# Altium schematic symbol library MCU_Microchip_ATtiny.SchLib: 223 symbols (part 1 of 4)
Pins are listed as number, name and electrical type; pins without a type are passive.

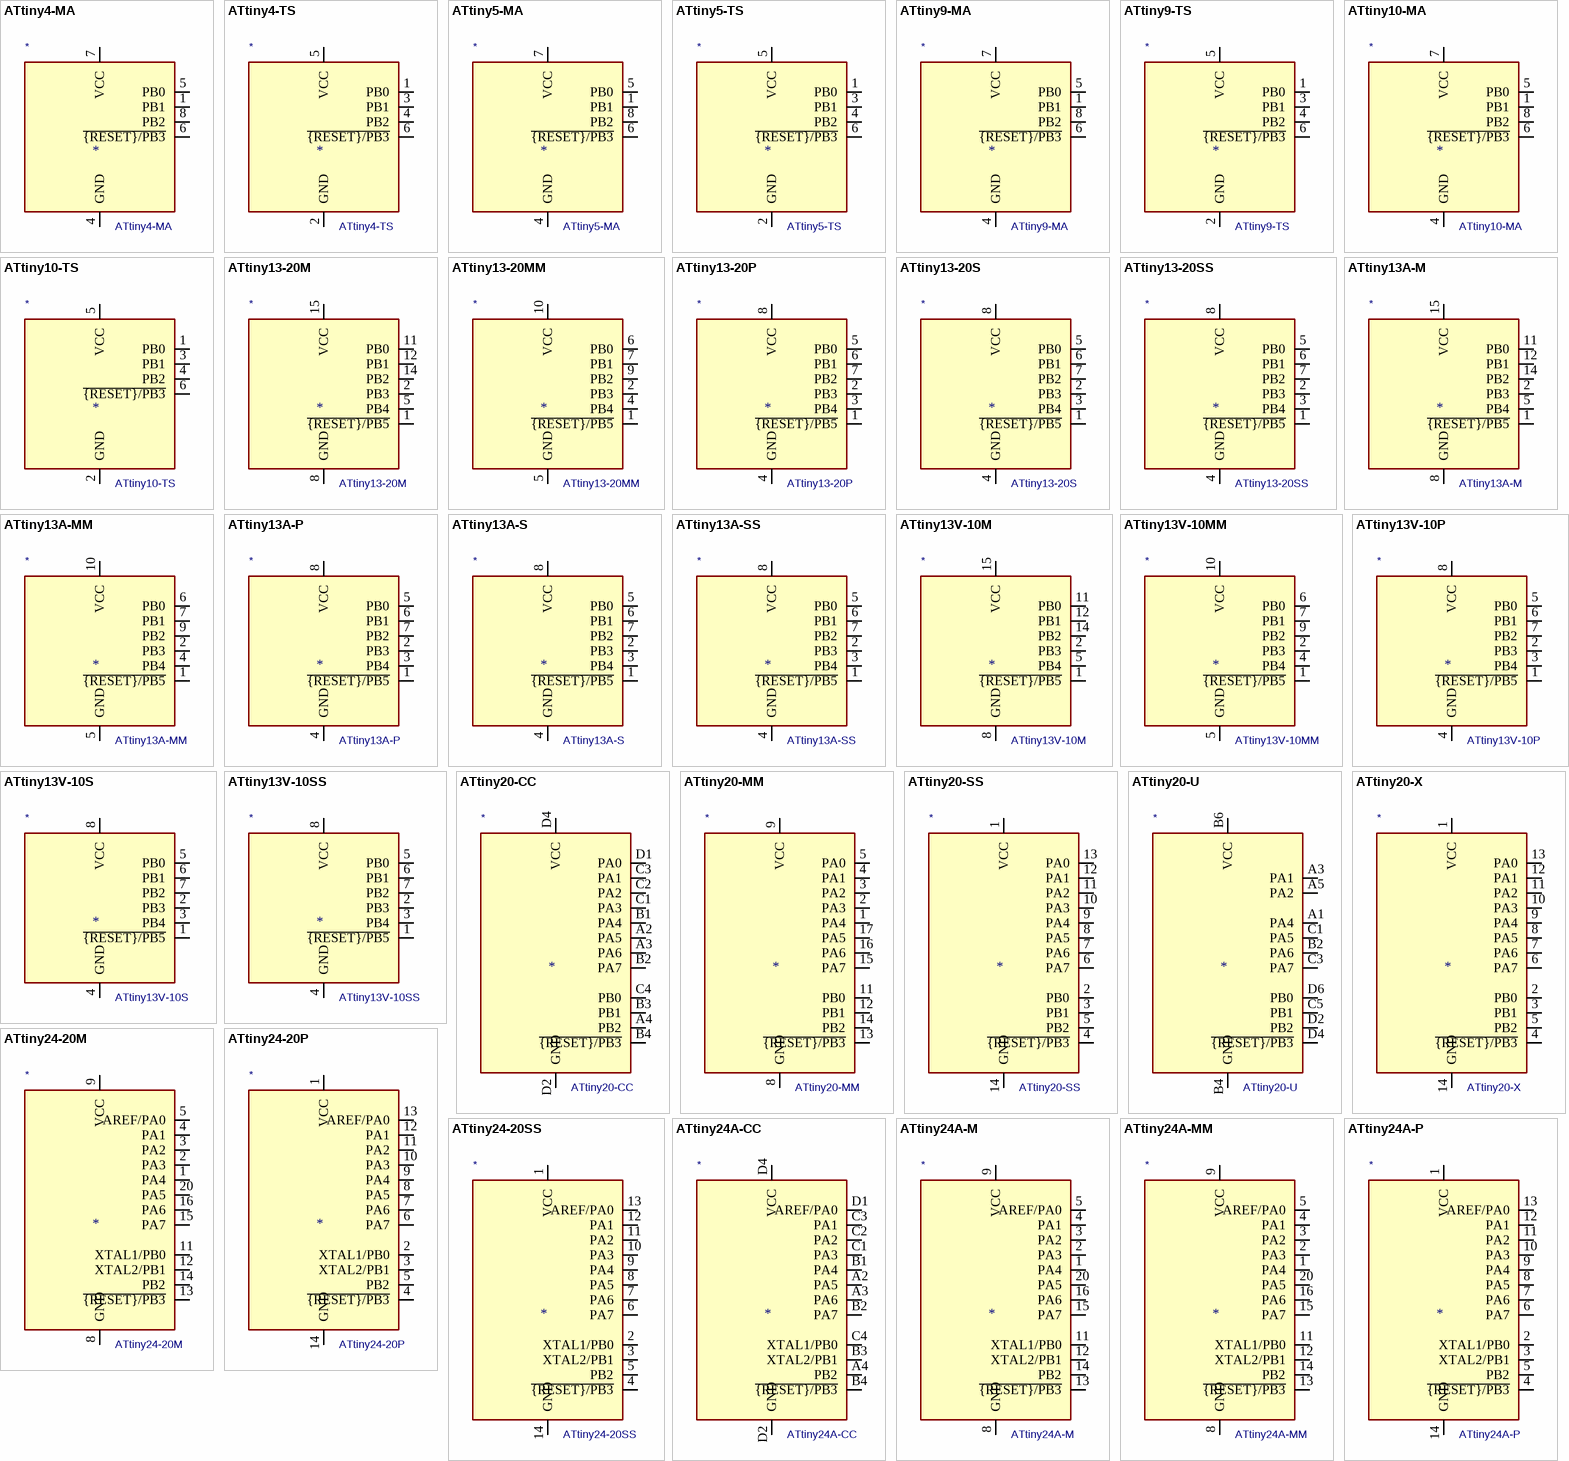
[diagram p0: symbols ATtiny4-MA to ATtiny24A-P]

## ATtiny4-MA
designator *  value ATtiny4-MA
ki_keywords: AVR 8bit Microcontroller tinyAVR; ki_description: 12MHz, 512B Flash, 32B SRAM, No EEPROM, DFN-8; ki_fp_filters: DFN*1EP*2x2mm*P0.5mm*; Footprint: Package_DFN_QFN:DFN-8-1EP_2x2mm_P0.5mm_EP0.9x1.5mm; Supplier: http://ww1.microchip.com/downloads/en/DeviceDoc/Atmel-8127-AVR-8-bit-Microcontroller-ATtiny4-ATtiny5-ATtiny9-ATtiny10_Datasheet.pdf
footprint DFN-8-1EP_2x2mm_P0.5mm_EP0.9x1.5mm
pins: 1 PB1 (io), 2 NC (in) hidden, 3 NC (in) hidden, 4 GND (power), 5 PB0 (io), 6 ~{{RESET}/PB3} (io), 7 VCC (power), 8 PB2 (io)

## ATtiny4-TS
designator *  value ATtiny4-TS
ki_keywords: AVR 8bit Microcontroller tinyAVR; ki_description: 12MHz, 512B Flash, 32B SRAM, No EEPROM, SOT-23-6; ki_fp_filters: SOT?23?6*; Footprint: Package_TO_SOT_SMD:SOT-23-6; Supplier: http://ww1.microchip.com/downloads/en/DeviceDoc/Atmel-8127-AVR-8-bit-Microcontroller-ATtiny4-ATtiny5-ATtiny9-ATtiny10_Datasheet.pdf
footprint SOT-23-6
pins: 1 PB0 (io), 2 GND (power), 3 PB1 (io), 4 PB2 (io), 5 VCC (power), 6 ~{{RESET}/PB3} (io)

## ATtiny5-MA
designator *  value ATtiny5-MA
ki_keywords: AVR 8bit Microcontroller tinyAVR; ki_description: 12MHz, 512B Flash, 32B SRAM, No EEPROM, ADC, DFN-8; ki_fp_filters: DFN*1EP*2x2mm*P0.5mm*; Footprint: Package_DFN_QFN:DFN-8-1EP_2x2mm_P0.5mm_EP0.9x1.5mm; Supplier: http://ww1.microchip.com/downloads/en/DeviceDoc/Atmel-8127-AVR-8-bit-Microcontroller-ATtiny4-ATtiny5-ATtiny9-ATtiny10_Datasheet.pdf
footprint DFN-8-1EP_2x2mm_P0.5mm_EP0.9x1.5mm
pins: 1 PB1 (io), 2 NC (in) hidden, 3 NC (in) hidden, 4 GND (power), 5 PB0 (io), 6 ~{{RESET}/PB3} (io), 7 VCC (power), 8 PB2 (io)

## ATtiny5-TS
designator *  value ATtiny5-TS
ki_keywords: AVR 8bit Microcontroller tinyAVR; ki_description: 12MHz, 512B Flash, 32B SRAM, No EEPROM, ADC, SOT-23-6; ki_fp_filters: SOT?23?6*; Footprint: Package_TO_SOT_SMD:SOT-23-6; Supplier: http://ww1.microchip.com/downloads/en/DeviceDoc/Atmel-8127-AVR-8-bit-Microcontroller-ATtiny4-ATtiny5-ATtiny9-ATtiny10_Datasheet.pdf
footprint SOT-23-6
pins: 1 PB0 (io), 2 GND (power), 3 PB1 (io), 4 PB2 (io), 5 VCC (power), 6 ~{{RESET}/PB3} (io)

## ATtiny9-MA
designator *  value ATtiny9-MA
ki_keywords: AVR 8bit Microcontroller tinyAVR; ki_description: 12MHz, 1kB Flash, 32B SRAM, No EEPROM, DFN-8; ki_fp_filters: DFN*1EP*2x2mm*P0.5mm*; Footprint: Package_DFN_QFN:DFN-8-1EP_2x2mm_P0.5mm_EP0.9x1.5mm; Supplier: http://ww1.microchip.com/downloads/en/DeviceDoc/Atmel-8127-AVR-8-bit-Microcontroller-ATtiny4-ATtiny5-ATtiny9-ATtiny10_Datasheet.pdf
footprint DFN-8-1EP_2x2mm_P0.5mm_EP0.9x1.5mm
pins: 1 PB1 (io), 2 NC (in) hidden, 3 NC (in) hidden, 4 GND (power), 5 PB0 (io), 6 ~{{RESET}/PB3} (io), 7 VCC (power), 8 PB2 (io)

## ATtiny9-TS
designator *  value ATtiny9-TS
ki_keywords: AVR 8bit Microcontroller tinyAVR; ki_description: 12MHz, 1kB Flash, 32B SRAM, No EEPROM, SOT-23-6; ki_fp_filters: SOT?23?6*; Footprint: Package_TO_SOT_SMD:SOT-23-6; Supplier: http://ww1.microchip.com/downloads/en/DeviceDoc/Atmel-8127-AVR-8-bit-Microcontroller-ATtiny4-ATtiny5-ATtiny9-ATtiny10_Datasheet.pdf
footprint SOT-23-6
pins: 1 PB0 (io), 2 GND (power), 3 PB1 (io), 4 PB2 (io), 5 VCC (power), 6 ~{{RESET}/PB3} (io)

## ATtiny10-MA
designator *  value ATtiny10-MA
ki_keywords: AVR 8bit Microcontroller tinyAVR; ki_description: 12MHz, 1kB Flash, 32B SRAM, No EEPROM, ADC, DFN-8; ki_fp_filters: DFN*1EP*2x2mm*P0.5mm*; Footprint: Package_DFN_QFN:DFN-8-1EP_2x2mm_P0.5mm_EP0.9x1.5mm; Supplier: http://ww1.microchip.com/downloads/en/DeviceDoc/Atmel-8127-AVR-8-bit-Microcontroller-ATtiny4-ATtiny5-ATtiny9-ATtiny10_Datasheet.pdf
footprint DFN-8-1EP_2x2mm_P0.5mm_EP0.9x1.5mm
pins: 1 PB1 (io), 2 NC (in) hidden, 3 NC (in) hidden, 4 GND (power), 5 PB0 (io), 6 ~{{RESET}/PB3} (io), 7 VCC (power), 8 PB2 (io)

## ATtiny10-TS
designator *  value ATtiny10-TS
ki_keywords: AVR 8bit Microcontroller tinyAVR; ki_description: 12MHz, 1kB Flash, 32B SRAM, No EEPROM, ADC, SOT-23-6; ki_fp_filters: SOT?23?6*; Footprint: Package_TO_SOT_SMD:SOT-23-6; Supplier: http://ww1.microchip.com/downloads/en/DeviceDoc/Atmel-8127-AVR-8-bit-Microcontroller-ATtiny4-ATtiny5-ATtiny9-ATtiny10_Datasheet.pdf
footprint SOT-23-6
pins: 1 PB0 (io), 2 GND (power), 3 PB1 (io), 4 PB2 (io), 5 VCC (power), 6 ~{{RESET}/PB3} (io)

## ATtiny13-20M
designator *  value ATtiny13-20M
ki_keywords: AVR 8bit Microcontroller tinyAVR; ki_description: 20MHz, 1kB Flash, 64B SRAM, 64B EEPROM, debugWIRE, QFN-20; ki_fp_filters: QFN*1EP*4x4mm*P0.5mm*; Footprint: Package_DFN_QFN:QFN-20-1EP_4x4mm_P0.5mm_EP2.6x2.6mm; Supplier: http://ww1.microchip.com/downloads/en/DeviceDoc/doc2535.pdf
footprint QFN-20-1EP_4x4mm_P0.5mm_EP2.6x2.6mm
pins: 1 ~{{RESET}/PB5} (io), 2 PB3 (io), 3 NC (in) hidden, 4 NC (in) hidden, 5 PB4 (io), 6 NC (in) hidden, 7 NC (in) hidden, 8 GND (power), 9 NC (in) hidden, 10 NC (in) hidden, 11 PB0 (io), 12 PB1 (io), 13 NC (in) hidden, 14 PB2 (io), 15 VCC (power), 16 NC (in) hidden, 17 NC (in) hidden, 18 NC (in) hidden, 19 NC (in) hidden, 20 NC (in) hidden, 21 GND hidden

## ATtiny13-20MM
designator *  value ATtiny13-20MM
ki_keywords: AVR 8bit Microcontroller tinyAVR; ki_description: 20MHz, 1kB Flash, 64B SRAM, 64B EEPROM, debugWIRE, DFN-10; ki_fp_filters: DFN*1EP*3x3mm*P0.5mm*; Footprint: Package_DFN_QFN:DFN-10-1EP_3x3mm_P0.5mm_EP1.75x2.7mm; Supplier: http://ww1.microchip.com/downloads/en/DeviceDoc/doc2535.pdf
footprint DFN-10-1EP_3x3mm_P0.5mm_EP1.75x2.7mm
pins: 1 ~{{RESET}/PB5} (io), 2 PB3 (io), 3 NC (in) hidden, 4 PB4 (io), 5 GND (power), 6 PB0 (io), 7 PB1 (io), 8 NC (in) hidden, 9 PB2 (io), 10 VCC (power), 11 GND hidden

## ATtiny13-20P
designator *  value ATtiny13-20P
ki_keywords: AVR 8bit Microcontroller tinyAVR; ki_description: 20MHz, 1kB Flash, 64B SRAM, 64B EEPROM, debugWIRE, DIP-8; ki_fp_filters: DIP*W7.62mm*; Footprint: Package_DIP:DIP-8_W7.62mm; Supplier: http://ww1.microchip.com/downloads/en/DeviceDoc/doc2535.pdf
footprint DIP-8_W7.62mm
pins: 1 ~{{RESET}/PB5} (io), 2 PB3 (io), 3 PB4 (io), 4 GND (power), 5 PB0 (io), 6 PB1 (io), 7 PB2 (io), 8 VCC (power)

## ATtiny13-20S
designator *  value ATtiny13-20S
ki_keywords: AVR 8bit Microcontroller tinyAVR; ki_description: 20MHz, 1kB Flash, 64B SRAM, 64B EEPROM, debugWIRE, SOIC-8W; ki_fp_filters: SOIC*5.3x5.3mm*P1.27mm*; Footprint: Package_SO:SOIC-8W_5.3x5.3mm_P1.27mm; Supplier: http://ww1.microchip.com/downloads/en/DeviceDoc/doc2535.pdf
footprint SOIC-8W_5.3x5.3mm_P1.27mm
pins: 1 ~{{RESET}/PB5} (io), 2 PB3 (io), 3 PB4 (io), 4 GND (power), 5 PB0 (io), 6 PB1 (io), 7 PB2 (io), 8 VCC (power)

## ATtiny13-20SS
designator *  value ATtiny13-20SS
ki_keywords: AVR 8bit Microcontroller tinyAVR; ki_description: 20MHz, 1kB Flash, 64B SRAM, 64B EEPROM, debugWIRE, SOIC-8; ki_fp_filters: SOIC*3.9x4.9mm*P1.27mm*; Footprint: Package_SO:SOIC-8_3.9x4.9mm_P1.27mm; Supplier: http://ww1.microchip.com/downloads/en/DeviceDoc/doc2535.pdf
footprint SOIC-8_3.9x4.9mm_P1.27mm
pins: 1 ~{{RESET}/PB5} (io), 2 PB3 (io), 3 PB4 (io), 4 GND (power), 5 PB0 (io), 6 PB1 (io), 7 PB2 (io), 8 VCC (power)

## ATtiny13A-M
designator *  value ATtiny13A-M
ki_keywords: AVR 8bit Microcontroller tinyAVR; ki_description: 20MHz, 1kB Flash, 64B SRAM, 64B EEPROM, debugWIRE, QFN-20; ki_fp_filters: QFN*1EP*4x4mm*P0.5mm*; Footprint: Package_DFN_QFN:QFN-20-1EP_4x4mm_P0.5mm_EP2.6x2.6mm; Supplier: http://ww1.microchip.com/downloads/en/DeviceDoc/doc8126.pdf
footprint QFN-20-1EP_4x4mm_P0.5mm_EP2.6x2.6mm
pins: 1 ~{{RESET}/PB5} (io), 2 PB3 (io), 3 NC (in) hidden, 4 NC (in) hidden, 5 PB4 (io), 6 NC (in) hidden, 7 NC (in) hidden, 8 GND (power), 9 NC (in) hidden, 10 NC (in) hidden, 11 PB0 (io), 12 PB1 (io), 13 NC (in) hidden, 14 PB2 (io), 15 VCC (power), 16 NC (in) hidden, 17 NC (in) hidden, 18 NC (in) hidden, 19 NC (in) hidden, 20 NC (in) hidden, 21 GND hidden

## ATtiny13A-MM
designator *  value ATtiny13A-MM
ki_keywords: AVR 8bit Microcontroller tinyAVR; ki_description: 20MHz, 1kB Flash, 64B SRAM, 64B EEPROM, debugWIRE, DFN-10; ki_fp_filters: DFN*1EP*3x3mm*P0.5mm*; Footprint: Package_DFN_QFN:DFN-10-1EP_3x3mm_P0.5mm_EP1.75x2.7mm; Supplier: http://ww1.microchip.com/downloads/en/DeviceDoc/doc8126.pdf
footprint DFN-10-1EP_3x3mm_P0.5mm_EP1.75x2.7mm
pins: 1 ~{{RESET}/PB5} (io), 2 PB3 (io), 3 NC (in) hidden, 4 PB4 (io), 5 GND (power), 6 PB0 (io), 7 PB1 (io), 8 NC (in) hidden, 9 PB2 (io), 10 VCC (power), 11 GND hidden

## ATtiny13A-P
designator *  value ATtiny13A-P
ki_keywords: AVR 8bit Microcontroller tinyAVR; ki_description: 20MHz, 1kB Flash, 64B SRAM, 64B EEPROM, debugWIRE, DIP-8; ki_fp_filters: DIP*W7.62mm*; Footprint: Package_DIP:DIP-8_W7.62mm; Supplier: http://ww1.microchip.com/downloads/en/DeviceDoc/doc8126.pdf
footprint DIP-8_W7.62mm
pins: 1 ~{{RESET}/PB5} (io), 2 PB3 (io), 3 PB4 (io), 4 GND (power), 5 PB0 (io), 6 PB1 (io), 7 PB2 (io), 8 VCC (power)

## ATtiny13A-S
designator *  value ATtiny13A-S
ki_keywords: AVR 8bit Microcontroller tinyAVR; ki_description: 20MHz, 1kB Flash, 64B SRAM, 64B EEPROM, debugWIRE, SOIC-8W; ki_fp_filters: SOIC*5.3x5.3mm*P1.27mm*; Footprint: Package_SO:SOIC-8W_5.3x5.3mm_P1.27mm; Supplier: http://ww1.microchip.com/downloads/en/DeviceDoc/doc8126.pdf
footprint SOIC-8W_5.3x5.3mm_P1.27mm
pins: 1 ~{{RESET}/PB5} (io), 2 PB3 (io), 3 PB4 (io), 4 GND (power), 5 PB0 (io), 6 PB1 (io), 7 PB2 (io), 8 VCC (power)

## ATtiny13A-SS
designator *  value ATtiny13A-SS
ki_keywords: AVR 8bit Microcontroller tinyAVR; ki_description: 20MHz, 1kB Flash, 64B SRAM, 64B EEPROM, debugWIRE, SOIC-8; ki_fp_filters: SOIC*3.9x4.9mm*P1.27mm*; Footprint: Package_SO:SOIC-8_3.9x4.9mm_P1.27mm; Supplier: http://ww1.microchip.com/downloads/en/DeviceDoc/doc8126.pdf
footprint SOIC-8_3.9x4.9mm_P1.27mm
pins: 1 ~{{RESET}/PB5} (io), 2 PB3 (io), 3 PB4 (io), 4 GND (power), 5 PB0 (io), 6 PB1 (io), 7 PB2 (io), 8 VCC (power)

## ATtiny13V-10M
designator *  value ATtiny13V-10M
ki_keywords: AVR 8bit Microcontroller tinyAVR; ki_description: 10MHz, 1kB Flash, 64B SRAM, 64B EEPROM, debugWIRE, QFN-20; ki_fp_filters: QFN*1EP*4x4mm*P0.5mm*; Footprint: Package_DFN_QFN:QFN-20-1EP_4x4mm_P0.5mm_EP2.6x2.6mm; Supplier: http://ww1.microchip.com/downloads/en/DeviceDoc/doc2535.pdf
footprint QFN-20-1EP_4x4mm_P0.5mm_EP2.6x2.6mm
pins: 1 ~{{RESET}/PB5} (io), 2 PB3 (io), 3 NC (in) hidden, 4 NC (in) hidden, 5 PB4 (io), 6 NC (in) hidden, 7 NC (in) hidden, 8 GND (power), 9 NC (in) hidden, 10 NC (in) hidden, 11 PB0 (io), 12 PB1 (io), 13 NC (in) hidden, 14 PB2 (io), 15 VCC (power), 16 NC (in) hidden, 17 NC (in) hidden, 18 NC (in) hidden, 19 NC (in) hidden, 20 NC (in) hidden, 21 GND hidden

## ATtiny13V-10MM
designator *  value ATtiny13V-10MM
ki_keywords: AVR 8bit Microcontroller tinyAVR; ki_description: 10MHz, 1kB Flash, 64B SRAM, 64B EEPROM, debugWIRE, DFN-10; ki_fp_filters: DFN*1EP*3x3mm*P0.5mm*; Footprint: Package_DFN_QFN:DFN-10-1EP_3x3mm_P0.5mm_EP1.75x2.7mm; Supplier: http://ww1.microchip.com/downloads/en/DeviceDoc/doc2535.pdf
footprint DFN-10-1EP_3x3mm_P0.5mm_EP1.75x2.7mm
pins: 1 ~{{RESET}/PB5} (io), 2 PB3 (io), 3 NC (in) hidden, 4 PB4 (io), 5 GND (power), 6 PB0 (io), 7 PB1 (io), 8 NC (in) hidden, 9 PB2 (io), 10 VCC (power), 11 GND hidden

## ATtiny13V-10P
designator *  value ATtiny13V-10P
ki_keywords: AVR 8bit Microcontroller tinyAVR; ki_description: 10MHz, 1kB Flash, 64B SRAM, 64B EEPROM, debugWIRE, DIP-8; ki_fp_filters: DIP*W7.62mm*; Footprint: Package_DIP:DIP-8_W7.62mm; Supplier: http://ww1.microchip.com/downloads/en/DeviceDoc/doc2535.pdf
footprint DIP-8_W7.62mm
pins: 1 ~{{RESET}/PB5} (io), 2 PB3 (io), 3 PB4 (io), 4 GND (power), 5 PB0 (io), 6 PB1 (io), 7 PB2 (io), 8 VCC (power)

## ATtiny13V-10S
designator *  value ATtiny13V-10S
ki_keywords: AVR 8bit Microcontroller tinyAVR; ki_description: 10MHz, 1kB Flash, 64B SRAM, 64B EEPROM, debugWIRE, SOIC-8W; ki_fp_filters: SOIC*5.3x5.3mm*P1.27mm*; Footprint: Package_SO:SOIC-8W_5.3x5.3mm_P1.27mm; Supplier: http://ww1.microchip.com/downloads/en/DeviceDoc/doc2535.pdf
footprint SOIC-8W_5.3x5.3mm_P1.27mm
pins: 1 ~{{RESET}/PB5} (io), 2 PB3 (io), 3 PB4 (io), 4 GND (power), 5 PB0 (io), 6 PB1 (io), 7 PB2 (io), 8 VCC (power)

## ATtiny13V-10SS
designator *  value ATtiny13V-10SS
ki_keywords: AVR 8bit Microcontroller tinyAVR; ki_description: 10MHz, 1kB Flash, 64B SRAM, 64B EEPROM, debugWIRE, SOIC-8; ki_fp_filters: SOIC*3.9x4.9mm*P1.27mm*; Footprint: Package_SO:SOIC-8_3.9x4.9mm_P1.27mm; Supplier: http://ww1.microchip.com/downloads/en/DeviceDoc/doc2535.pdf
footprint SOIC-8_3.9x4.9mm_P1.27mm
pins: 1 ~{{RESET}/PB5} (io), 2 PB3 (io), 3 PB4 (io), 4 GND (power), 5 PB0 (io), 6 PB1 (io), 7 PB2 (io), 8 VCC (power)

## ATtiny20-CC
designator *  value ATtiny20-CC
ki_keywords: AVR 8bit Microcontroller tinyAVR; ki_description: 12MHz, 2kB Flash, 128B SRAM, No EEPROM, UFBGA-15; ki_fp_filters: UFBGA*3.0x3.0mm*Layout4x4*P0.65mm*; Footprint: Package_BGA:UFBGA-15_3.0x3.0mm_Layout4x4_P0.65mm; Supplier: http://ww1.microchip.com/downloads/en/DeviceDoc/atmel-8235-8-bit-avr-microcontroller-attiny20_datasheet.pdf
footprint UFBGA-15_3.0x3.0mm_Layout4x4_P0.65mm
pins: A2 PA5 (io), A3 PA6 (io), A4 PB2 (io), B1 PA4 (io), B2 PA7 (io), B3 PB1 (io), B4 ~{{RESET}/PB3} (io), C1 PA3 (io), C2 PA2 (io), C3 PA1 (io), C4 PB0 (io), D1 PA0 (io), D2 GND (power), D3 GND hidden, D4 VCC (power)

## ATtiny20-MM
designator *  value ATtiny20-MM
ki_keywords: AVR 8bit Microcontroller tinyAVR; ki_description: 12MHz, 2kB Flash, 128B SRAM, No EEPROM, QFN-20; ki_fp_filters: QFN*1EP*3x3mm*P0.45mm*; Footprint: Package_DFN_QFN:QFN-20-1EP_3x3mm_P0.45mm_EP1.6x1.6mm; Supplier: http://ww1.microchip.com/downloads/en/DeviceDoc/atmel-8235-8-bit-avr-microcontroller-attiny20_datasheet.pdf
footprint QFN-20-1EP_3x3mm_P0.45mm_EP1.6x1.6mm
pins: 1 PA4 (io), 2 PA3 (io), 3 PA2 (io), 4 PA1 (io), 5 PA0 (io), 6 NC (in) hidden, 7 NC (in) hidden, 8 GND (power), 9 VCC (power), 10 NC (in) hidden, 11 PB0 (io), 12 PB1 (io), 13 ~{{RESET}/PB3} (io), 14 PB2 (io), 15 PA7 (io), 16 PA6 (io), 17 PA5 (io), 18 NC (in) hidden, 19 NC (in) hidden, 20 NC (in) hidden, 21 GND hidden

## ATtiny20-SS
designator *  value ATtiny20-SS
ki_keywords: AVR 8bit Microcontroller tinyAVR; ki_description: 12MHz, 2kB Flash, 128B SRAM, No EEPROM, SOIC-14; ki_fp_filters: SOIC*3.9x8.7mm*P1.27mm*; Footprint: Package_SO:SOIC-14_3.9x8.7mm_P1.27mm; Supplier: http://ww1.microchip.com/downloads/en/DeviceDoc/atmel-8235-8-bit-avr-microcontroller-attiny20_datasheet.pdf
footprint SOIC-14_3.9x8.7mm_P1.27mm
pins: 1 VCC (power), 2 PB0 (io), 3 PB1 (io), 4 ~{{RESET}/PB3} (io), 5 PB2 (io), 6 PA7 (io), 7 PA6 (io), 8 PA5 (io), 9 PA4 (io), 10 PA3 (io), 11 PA2 (io), 12 PA1 (io), 13 PA0 (io), 14 GND (power)

## ATtiny20-U
designator *  value ATtiny20-U
ki_keywords: AVR 8bit Microcontroller tinyAVR; ki_description: 12MHz, 2kB Flash, 128B SRAM, No EEPROM, WLCSP-12; ki_fp_filters: WLCSP*1.403x1.555mm*P0.4mm*Stagger*; Footprint: Package_CSP:WLCSP-12_1.403x1.555mm_P0.4mm_Stagger; Supplier: http://ww1.microchip.com/downloads/en/DeviceDoc/atmel-8235-8-bit-avr-microcontroller-attiny20_datasheet.pdf
footprint WLCSP-12_1.403x1.555mm_P0.4mm_Stagger
pins: A1 PA4 (io), A3 PA1 (io), A5 PA2 (io), B2 PA6 (io), B4 GND (power), B6 VCC (power), C1 PA5 (io), C3 PA7 (io), C5 PB1 (io), D2 PB2 (io), D4 ~{{RESET}/PB3} (io), D6 PB0 (io)

## ATtiny20-X
designator *  value ATtiny20-X
ki_keywords: AVR 8bit Microcontroller tinyAVR; ki_description: 12MHz, 2kB Flash, 128B SRAM, No EEPROM, TSSOP-14; ki_fp_filters: TSSOP*4.4x5mm*P0.65mm*; Footprint: Package_SO:TSSOP-14_4.4x5mm_P0.65mm; Supplier: http://ww1.microchip.com/downloads/en/DeviceDoc/atmel-8235-8-bit-avr-microcontroller-attiny20_datasheet.pdf
footprint TSSOP-14_4.4x5mm_P0.65mm
pins: 1 VCC (power), 2 PB0 (io), 3 PB1 (io), 4 ~{{RESET}/PB3} (io), 5 PB2 (io), 6 PA7 (io), 7 PA6 (io), 8 PA5 (io), 9 PA4 (io), 10 PA3 (io), 11 PA2 (io), 12 PA1 (io), 13 PA0 (io), 14 GND (power)

## ATtiny24-20M
designator *  value ATtiny24-20M
ki_keywords: AVR 8bit Microcontroller tinyAVR; ki_description: 20MHz, 2kB Flash, 128B SRAM, 128B EEPROM, debugWIRE, QFN-20; ki_fp_filters: QFN*1EP*4x4mm*P0.5mm*; Footprint: Package_DFN_QFN:QFN-20-1EP_4x4mm_P0.5mm_EP2.6x2.6mm; Supplier: http://ww1.microchip.com/downloads/en/DeviceDoc/doc8006.pdf
footprint QFN-20-1EP_4x4mm_P0.5mm_EP2.6x2.6mm
pins: 1 PA4 (io), 2 PA3 (io), 3 PA2 (io), 4 PA1 (io), 5 AREF/PA0 (io), 6 NC (in) hidden, 7 NC (in) hidden, 8 GND (power), 9 VCC (power), 10 NC (in) hidden, 11 XTAL1/PB0 (io), 12 XTAL2/PB1 (io), 13 ~{{RESET}/PB3} (io), 14 PB2 (io), 15 PA7 (io), 16 PA6 (io), 17 NC (in) hidden, 18 NC (in) hidden, 19 NC (in) hidden, 20 PA5 (io), 21 GND hidden

## ATtiny24-20P
designator *  value ATtiny24-20P
ki_keywords: AVR 8bit Microcontroller tinyAVR; ki_description: 20MHz, 2kB Flash, 128B SRAM, 128B EEPROM, debugWIRE, DIP-14; ki_fp_filters: DIP*W7.62mm*; Footprint: Package_DIP:DIP-14_W7.62mm; Supplier: http://ww1.microchip.com/downloads/en/DeviceDoc/doc8006.pdf
footprint DIP-14_W7.62mm
pins: 1 VCC (power), 2 XTAL1/PB0 (io), 3 XTAL2/PB1 (io), 4 ~{{RESET}/PB3} (io), 5 PB2 (io), 6 PA7 (io), 7 PA6 (io), 8 PA5 (io), 9 PA4 (io), 10 PA3 (io), 11 PA2 (io), 12 PA1 (io), 13 AREF/PA0 (io), 14 GND (power)

## ATtiny24-20SS
designator *  value ATtiny24-20SS
ki_keywords: AVR 8bit Microcontroller tinyAVR; ki_description: 20MHz, 2kB Flash, 128B SRAM, 128B EEPROM, debugWIRE, SOIC-14; ki_fp_filters: SOIC*3.9x8.7mm*P1.27mm*; Footprint: Package_SO:SOIC-14_3.9x8.7mm_P1.27mm; Supplier: http://ww1.microchip.com/downloads/en/DeviceDoc/doc8006.pdf
footprint SOIC-14_3.9x8.7mm_P1.27mm
pins: 1 VCC (power), 2 XTAL1/PB0 (io), 3 XTAL2/PB1 (io), 4 ~{{RESET}/PB3} (io), 5 PB2 (io), 6 PA7 (io), 7 PA6 (io), 8 PA5 (io), 9 PA4 (io), 10 PA3 (io), 11 PA2 (io), 12 PA1 (io), 13 AREF/PA0 (io), 14 GND (power)

## ATtiny24A-CC
designator *  value ATtiny24A-CC
ki_keywords: AVR 8bit Microcontroller tinyAVR; ki_description: 20MHz, 2kB Flash, 128B SRAM, 128B EEPROM, debugWIRE, UFBGA-15; ki_fp_filters: UFBGA*3.0x3.0mm*Layout4x4*P0.65mm*; Footprint: Package_BGA:UFBGA-15_3.0x3.0mm_Layout4x4_P0.65mm; Supplier: http://ww1.microchip.com/downloads/en/DeviceDoc/doc8183.pdf
footprint UFBGA-15_3.0x3.0mm_Layout4x4_P0.65mm
pins: A2 PA5 (io), A3 PA6 (io), A4 PB2 (io), B1 PA4 (io), B2 PA7 (io), B3 XTAL2/PB1 (io), B4 ~{{RESET}/PB3} (io), C1 PA3 (io), C2 PA2 (io), C3 PA1 (io), C4 XTAL1/PB0 (io), D1 AREF/PA0 (io), D2 GND (power), D3 GND hidden, D4 VCC (power)

## ATtiny24A-M
designator *  value ATtiny24A-M
ki_keywords: AVR 8bit Microcontroller tinyAVR; ki_description: 20MHz, 2kB Flash, 128B SRAM, 128B EEPROM, debugWIRE, QFN-20; ki_fp_filters: QFN*1EP*4x4mm*P0.5mm*; Footprint: Package_DFN_QFN:QFN-20-1EP_4x4mm_P0.5mm_EP2.6x2.6mm; Supplier: http://ww1.microchip.com/downloads/en/DeviceDoc/doc8183.pdf
footprint QFN-20-1EP_4x4mm_P0.5mm_EP2.6x2.6mm
pins: 1 PA4 (io), 2 PA3 (io), 3 PA2 (io), 4 PA1 (io), 5 AREF/PA0 (io), 6 NC (in) hidden, 7 NC (in) hidden, 8 GND (power), 9 VCC (power), 10 NC (in) hidden, 11 XTAL1/PB0 (io), 12 XTAL2/PB1 (io), 13 ~{{RESET}/PB3} (io), 14 PB2 (io), 15 PA7 (io), 16 PA6 (io), 17 NC (in) hidden, 18 NC (in) hidden, 19 NC (in) hidden, 20 PA5 (io), 21 GND hidden

## ATtiny24A-MM
designator *  value ATtiny24A-MM
ki_keywords: AVR 8bit Microcontroller tinyAVR; ki_description: 20MHz, 2kB Flash, 128B SRAM, 128B EEPROM, debugWIRE, QFN-20; ki_fp_filters: QFN*1EP*3x3mm*P0.45mm*; Footprint: Package_DFN_QFN:QFN-20-1EP_3x3mm_P0.45mm_EP1.6x1.6mm; Supplier: http://ww1.microchip.com/downloads/en/DeviceDoc/doc8183.pdf
footprint QFN-20-1EP_3x3mm_P0.45mm_EP1.6x1.6mm
pins: 1 PA4 (io), 2 PA3 (io), 3 PA2 (io), 4 PA1 (io), 5 AREF/PA0 (io), 6 NC (in) hidden, 7 NC (in) hidden, 8 GND (power), 9 VCC (power), 10 NC (in) hidden, 11 XTAL1/PB0 (io), 12 XTAL2/PB1 (io), 13 ~{{RESET}/PB3} (io), 14 PB2 (io), 15 PA7 (io), 16 PA6 (io), 17 NC (in) hidden, 18 NC (in) hidden, 19 NC (in) hidden, 20 PA5 (io), 21 GND hidden

## ATtiny24A-P
designator *  value ATtiny24A-P
ki_keywords: AVR 8bit Microcontroller tinyAVR; ki_description: 20MHz, 2kB Flash, 128B SRAM, 128B EEPROM, debugWIRE, DIP-14; ki_fp_filters: DIP*W7.62mm*; Footprint: Package_DIP:DIP-14_W7.62mm; Supplier: http://ww1.microchip.com/downloads/en/DeviceDoc/doc8183.pdf
footprint DIP-14_W7.62mm
pins: 1 VCC (power), 2 XTAL1/PB0 (io), 3 XTAL2/PB1 (io), 4 ~{{RESET}/PB3} (io), 5 PB2 (io), 6 PA7 (io), 7 PA6 (io), 8 PA5 (io), 9 PA4 (io), 10 PA3 (io), 11 PA2 (io), 12 PA1 (io), 13 AREF/PA0 (io), 14 GND (power)

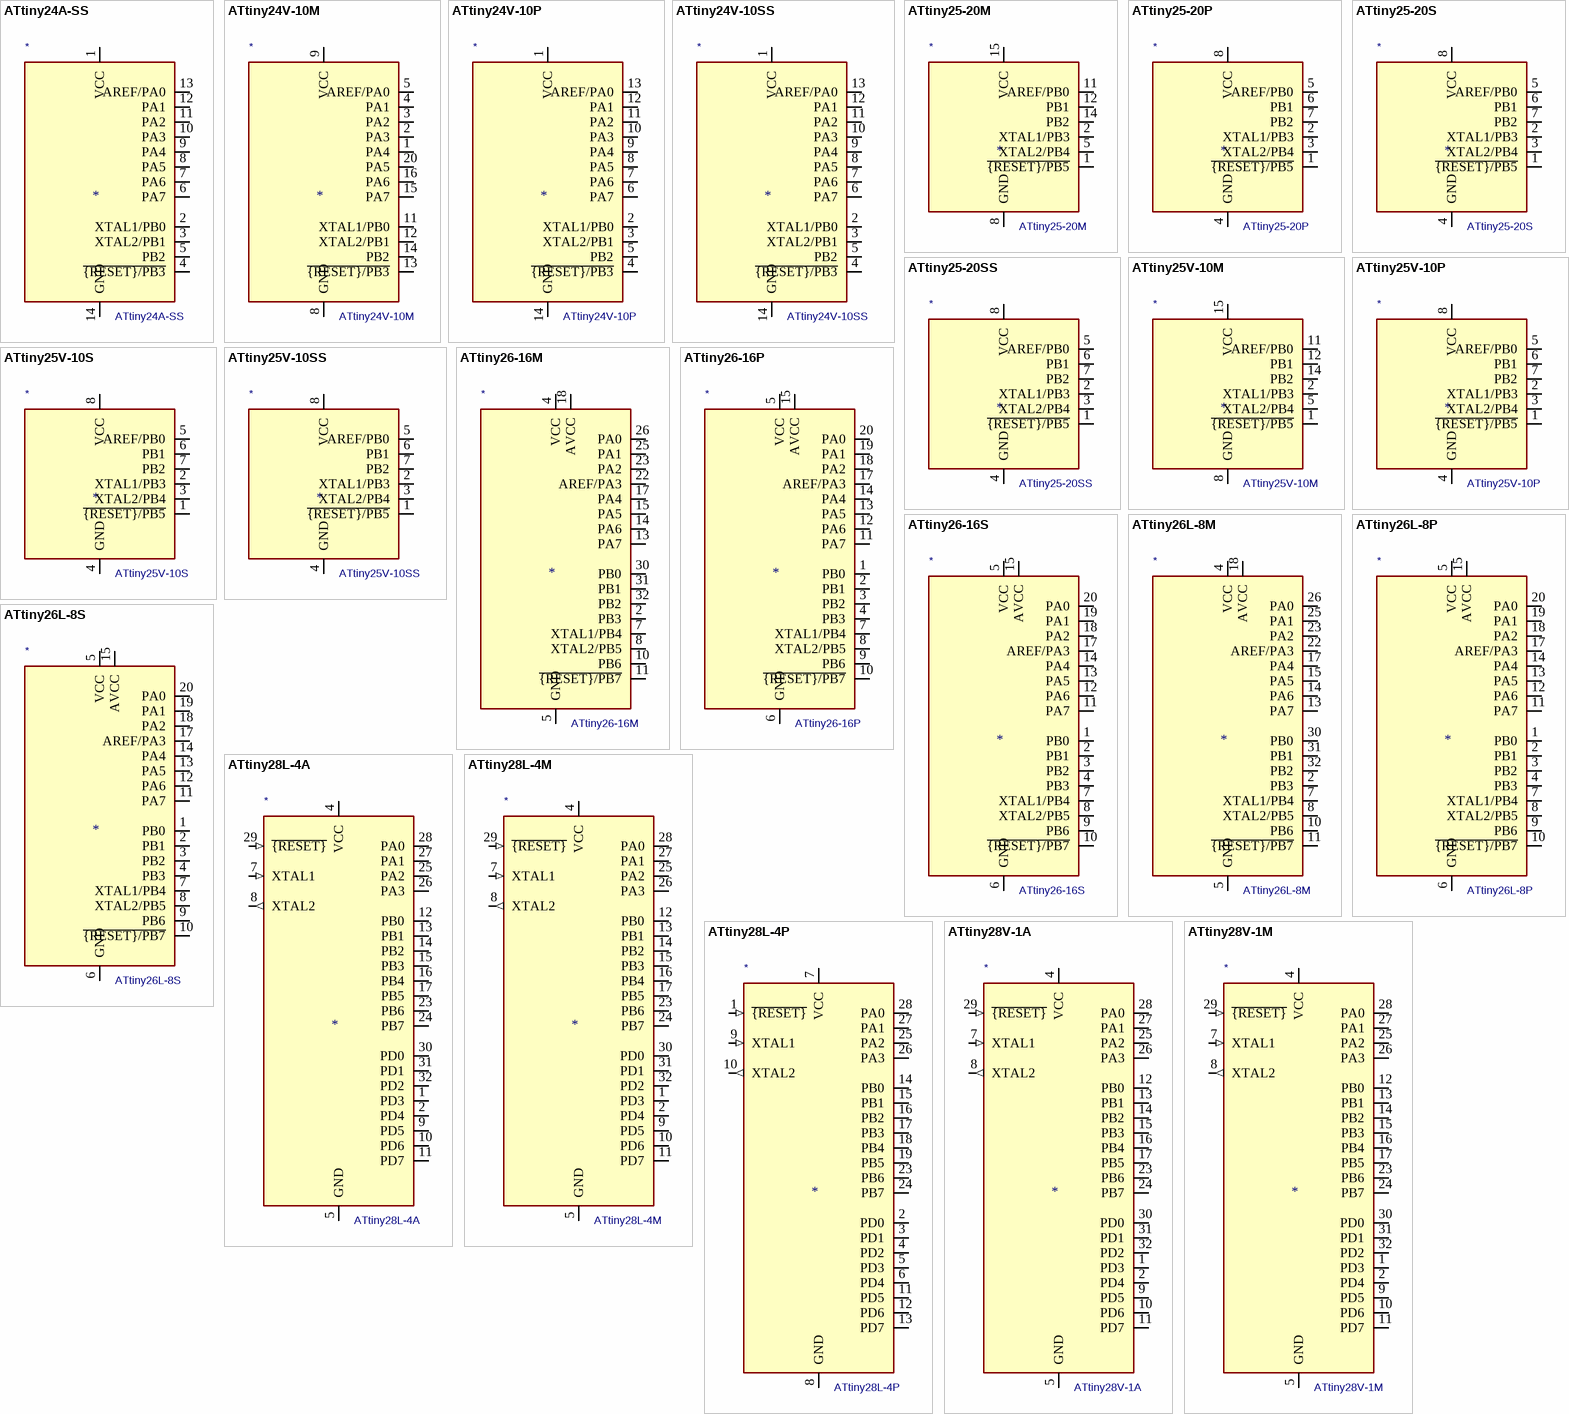
[diagram p1: symbols ATtiny24A-SS to ATtiny28V-1M]

## ATtiny24A-SS
designator *  value ATtiny24A-SS
ki_keywords: AVR 8bit Microcontroller tinyAVR; ki_description: 20MHz, 2kB Flash, 128B SRAM, 128B EEPROM, debugWIRE, SOIC-14; ki_fp_filters: SOIC*3.9x8.7mm*P1.27mm*; Footprint: Package_SO:SOIC-14_3.9x8.7mm_P1.27mm; Supplier: http://ww1.microchip.com/downloads/en/DeviceDoc/doc8183.pdf
footprint SOIC-14_3.9x8.7mm_P1.27mm
pins: 1 VCC (power), 2 XTAL1/PB0 (io), 3 XTAL2/PB1 (io), 4 ~{{RESET}/PB3} (io), 5 PB2 (io), 6 PA7 (io), 7 PA6 (io), 8 PA5 (io), 9 PA4 (io), 10 PA3 (io), 11 PA2 (io), 12 PA1 (io), 13 AREF/PA0 (io), 14 GND (power)

## ATtiny24V-10M
designator *  value ATtiny24V-10M
ki_keywords: AVR 8bit Microcontroller tinyAVR; ki_description: 10MHz, 2kB Flash, 128B SRAM, 128B EEPROM, debugWIRE, QFN-20; ki_fp_filters: QFN*1EP*4x4mm*P0.5mm*; Footprint: Package_DFN_QFN:QFN-20-1EP_4x4mm_P0.5mm_EP2.6x2.6mm; Supplier: http://ww1.microchip.com/downloads/en/DeviceDoc/doc8006.pdf
footprint QFN-20-1EP_4x4mm_P0.5mm_EP2.6x2.6mm
pins: 1 PA4 (io), 2 PA3 (io), 3 PA2 (io), 4 PA1 (io), 5 AREF/PA0 (io), 6 NC (in) hidden, 7 NC (in) hidden, 8 GND (power), 9 VCC (power), 10 NC (in) hidden, 11 XTAL1/PB0 (io), 12 XTAL2/PB1 (io), 13 ~{{RESET}/PB3} (io), 14 PB2 (io), 15 PA7 (io), 16 PA6 (io), 17 NC (in) hidden, 18 NC (in) hidden, 19 NC (in) hidden, 20 PA5 (io), 21 GND hidden

## ATtiny24V-10P
designator *  value ATtiny24V-10P
ki_keywords: AVR 8bit Microcontroller tinyAVR; ki_description: 10MHz, 2kB Flash, 128B SRAM, 128B EEPROM, debugWIRE, DIP-14; ki_fp_filters: DIP*W7.62mm*; Footprint: Package_DIP:DIP-14_W7.62mm; Supplier: http://ww1.microchip.com/downloads/en/DeviceDoc/doc8006.pdf
footprint DIP-14_W7.62mm
pins: 1 VCC (power), 2 XTAL1/PB0 (io), 3 XTAL2/PB1 (io), 4 ~{{RESET}/PB3} (io), 5 PB2 (io), 6 PA7 (io), 7 PA6 (io), 8 PA5 (io), 9 PA4 (io), 10 PA3 (io), 11 PA2 (io), 12 PA1 (io), 13 AREF/PA0 (io), 14 GND (power)

## ATtiny24V-10SS
designator *  value ATtiny24V-10SS
ki_keywords: AVR 8bit Microcontroller tinyAVR; ki_description: 10MHz, 2kB Flash, 128B SRAM, 128B EEPROM, debugWIRE, SOIC-14; ki_fp_filters: SOIC*3.9x8.7mm*P1.27mm*; Footprint: Package_SO:SOIC-14_3.9x8.7mm_P1.27mm; Supplier: http://ww1.microchip.com/downloads/en/DeviceDoc/doc8006.pdf
footprint SOIC-14_3.9x8.7mm_P1.27mm
pins: 1 VCC (power), 2 XTAL1/PB0 (io), 3 XTAL2/PB1 (io), 4 ~{{RESET}/PB3} (io), 5 PB2 (io), 6 PA7 (io), 7 PA6 (io), 8 PA5 (io), 9 PA4 (io), 10 PA3 (io), 11 PA2 (io), 12 PA1 (io), 13 AREF/PA0 (io), 14 GND (power)

## ATtiny25-20M
designator *  value ATtiny25-20M
ki_keywords: AVR 8bit Microcontroller tinyAVR; ki_description: 20MHz, 2kB Flash, 128B SRAM, 128B EEPROM, debugWIRE, QFN-20; ki_fp_filters: QFN*1EP*4x4mm*P0.5mm*; Footprint: Package_DFN_QFN:QFN-20-1EP_4x4mm_P0.5mm_EP2.6x2.6mm; Supplier: http://ww1.microchip.com/downloads/en/DeviceDoc/atmel-2586-avr-8-bit-microcontroller-attiny25-attiny45-attiny85_datasheet.pdf
footprint QFN-20-1EP_4x4mm_P0.5mm_EP2.6x2.6mm
pins: 1 ~{{RESET}/PB5} (io), 2 XTAL1/PB3 (io), 3 NC (in) hidden, 4 NC (in) hidden, 5 XTAL2/PB4 (io), 6 NC (in) hidden, 7 NC (in) hidden, 8 GND (power), 9 NC (in) hidden, 10 NC (in) hidden, 11 AREF/PB0 (io), 12 PB1 (io), 13 NC (in) hidden, 14 PB2 (io), 15 VCC (power), 16 NC (in) hidden, 17 NC (in) hidden, 18 NC (in) hidden, 19 NC (in) hidden, 20 NC (in) hidden, 21 GND hidden

## ATtiny25-20P
designator *  value ATtiny25-20P
ki_keywords: AVR 8bit Microcontroller tinyAVR; ki_description: 20MHz, 2kB Flash, 128B SRAM, 128B EEPROM, debugWIRE, DIP-8; ki_fp_filters: DIP*W7.62mm*; Footprint: Package_DIP:DIP-8_W7.62mm; Supplier: http://ww1.microchip.com/downloads/en/DeviceDoc/atmel-2586-avr-8-bit-microcontroller-attiny25-attiny45-attiny85_datasheet.pdf
footprint DIP-8_W7.62mm
pins: 1 ~{{RESET}/PB5} (io), 2 XTAL1/PB3 (io), 3 XTAL2/PB4 (io), 4 GND (power), 5 AREF/PB0 (io), 6 PB1 (io), 7 PB2 (io), 8 VCC (power)

## ATtiny25-20S
designator *  value ATtiny25-20S
ki_keywords: AVR 8bit Microcontroller tinyAVR; ki_description: 20MHz, 2kB Flash, 128B SRAM, 128B EEPROM, debugWIRE, SOIC-8W; ki_fp_filters: SOIC*5.3x5.3mm*P1.27mm*; Footprint: Package_SO:SOIC-8W_5.3x5.3mm_P1.27mm; Supplier: http://ww1.microchip.com/downloads/en/DeviceDoc/atmel-2586-avr-8-bit-microcontroller-attiny25-attiny45-attiny85_datasheet.pdf
footprint SOIC-8W_5.3x5.3mm_P1.27mm
pins: 1 ~{{RESET}/PB5} (io), 2 XTAL1/PB3 (io), 3 XTAL2/PB4 (io), 4 GND (power), 5 AREF/PB0 (io), 6 PB1 (io), 7 PB2 (io), 8 VCC (power)

## ATtiny25-20SS
designator *  value ATtiny25-20SS
ki_keywords: AVR 8bit Microcontroller tinyAVR; ki_description: 20MHz, 2kB Flash, 128B SRAM, 128B EEPROM, debugWIRE, SOIC-8; ki_fp_filters: SOIC*3.9x4.9mm*P1.27mm*; Footprint: Package_SO:SOIC-8_3.9x4.9mm_P1.27mm; Supplier: http://ww1.microchip.com/downloads/en/DeviceDoc/atmel-2586-avr-8-bit-microcontroller-attiny25-attiny45-attiny85_datasheet.pdf
footprint SOIC-8_3.9x4.9mm_P1.27mm
pins: 1 ~{{RESET}/PB5} (io), 2 XTAL1/PB3 (io), 3 XTAL2/PB4 (io), 4 GND (power), 5 AREF/PB0 (io), 6 PB1 (io), 7 PB2 (io), 8 VCC (power)

## ATtiny25V-10M
designator *  value ATtiny25V-10M
ki_keywords: AVR 8bit Microcontroller tinyAVR; ki_description: 10MHz, 2kB Flash, 128B SRAM, 128B EEPROM, debugWIRE, QFN-20; ki_fp_filters: QFN*1EP*4x4mm*P0.5mm*; Footprint: Package_DFN_QFN:QFN-20-1EP_4x4mm_P0.5mm_EP2.6x2.6mm; Supplier: http://ww1.microchip.com/downloads/en/DeviceDoc/atmel-2586-avr-8-bit-microcontroller-attiny25-attiny45-attiny85_datasheet.pdf
footprint QFN-20-1EP_4x4mm_P0.5mm_EP2.6x2.6mm
pins: 1 ~{{RESET}/PB5} (io), 2 XTAL1/PB3 (io), 3 NC (in) hidden, 4 NC (in) hidden, 5 XTAL2/PB4 (io), 6 NC (in) hidden, 7 NC (in) hidden, 8 GND (power), 9 NC (in) hidden, 10 NC (in) hidden, 11 AREF/PB0 (io), 12 PB1 (io), 13 NC (in) hidden, 14 PB2 (io), 15 VCC (power), 16 NC (in) hidden, 17 NC (in) hidden, 18 NC (in) hidden, 19 NC (in) hidden, 20 NC (in) hidden, 21 GND hidden

## ATtiny25V-10P
designator *  value ATtiny25V-10P
ki_keywords: AVR 8bit Microcontroller tinyAVR; ki_description: 10MHz, 2kB Flash, 128B SRAM, 128B EEPROM, debugWIRE, DIP-8; ki_fp_filters: DIP*W7.62mm*; Footprint: Package_DIP:DIP-8_W7.62mm; Supplier: http://ww1.microchip.com/downloads/en/DeviceDoc/atmel-2586-avr-8-bit-microcontroller-attiny25-attiny45-attiny85_datasheet.pdf
footprint DIP-8_W7.62mm
pins: 1 ~{{RESET}/PB5} (io), 2 XTAL1/PB3 (io), 3 XTAL2/PB4 (io), 4 GND (power), 5 AREF/PB0 (io), 6 PB1 (io), 7 PB2 (io), 8 VCC (power)

## ATtiny25V-10S
designator *  value ATtiny25V-10S
ki_keywords: AVR 8bit Microcontroller tinyAVR; ki_description: 10MHz, 2kB Flash, 128B SRAM, 128B EEPROM, debugWIRE, SOIC-8W; ki_fp_filters: SOIC*5.3x5.3mm*P1.27mm*; Footprint: Package_SO:SOIC-8W_5.3x5.3mm_P1.27mm; Supplier: http://ww1.microchip.com/downloads/en/DeviceDoc/atmel-2586-avr-8-bit-microcontroller-attiny25-attiny45-attiny85_datasheet.pdf
footprint SOIC-8W_5.3x5.3mm_P1.27mm
pins: 1 ~{{RESET}/PB5} (io), 2 XTAL1/PB3 (io), 3 XTAL2/PB4 (io), 4 GND (power), 5 AREF/PB0 (io), 6 PB1 (io), 7 PB2 (io), 8 VCC (power)

## ATtiny25V-10SS
designator *  value ATtiny25V-10SS
ki_keywords: AVR 8bit Microcontroller tinyAVR; ki_description: 10MHz, 2kB Flash, 128B SRAM, 128B EEPROM, debugWIRE, SOIC-8; ki_fp_filters: SOIC*3.9x4.9mm*P1.27mm*; Footprint: Package_SO:SOIC-8_3.9x4.9mm_P1.27mm; Supplier: http://ww1.microchip.com/downloads/en/DeviceDoc/atmel-2586-avr-8-bit-microcontroller-attiny25-attiny45-attiny85_datasheet.pdf
footprint SOIC-8_3.9x4.9mm_P1.27mm
pins: 1 ~{{RESET}/PB5} (io), 2 XTAL1/PB3 (io), 3 XTAL2/PB4 (io), 4 GND (power), 5 AREF/PB0 (io), 6 PB1 (io), 7 PB2 (io), 8 VCC (power)

## ATtiny26-16M
designator *  value ATtiny26-16M
ki_keywords: AVR 8bit Microcontroller tinyAVR; ki_description: 16MHz, 2kB Flash, 128B SRAM, 128B EEPROM, QFN-32; ki_fp_filters: QFN*1EP*5x5mm*P0.5mm*; Footprint: Package_DFN_QFN:QFN-32-1EP_5x5mm_P0.5mm_EP3.1x3.1mm; Supplier: http://ww1.microchip.com/downloads/en/DeviceDoc/doc1477.pdf
footprint QFN-32-1EP_5x5mm_P0.5mm_EP3.1x3.1mm
pins: 1 NC (in) hidden, 2 PB3 (io), 3 NC (in) hidden, 4 VCC (power), 5 GND (power), 6 NC (in) hidden, 7 XTAL1/PB4 (io), 8 XTAL2/PB5 (io), 9 NC (in) hidden, 10 PB6 (io), 11 ~{{RESET}/PB7} (io), 12 NC (in) hidden, 13 PA7 (io), 14 PA6 (io), 15 PA5 (io), 16 NC (in) hidden, 17 PA4 (io), 18 AVCC (power), 19 NC (in) hidden, 20 NC (in) hidden, 21 GND hidden, 22 AREF/PA3 (io), 23 PA2 (io), 24 NC (in) hidden, 25 PA1 (io), 26 PA0 (io), 27 NC (in) hidden, 28 NC (in) hidden, 29 NC (in) hidden, 30 PB0 (io), 31 PB1 (io), 32 PB2 (io), 33 GND hidden

## ATtiny26-16P
designator *  value ATtiny26-16P
ki_keywords: AVR 8bit Microcontroller tinyAVR; ki_description: 16MHz, 2kB Flash, 128B SRAM, 128B EEPROM, DIP-20; ki_fp_filters: DIP*W7.62mm*; Footprint: Package_DIP:DIP-20_W7.62mm; Supplier: http://ww1.microchip.com/downloads/en/DeviceDoc/doc1477.pdf
footprint DIP-20_W7.62mm
pins: 1 PB0 (io), 2 PB1 (io), 3 PB2 (io), 4 PB3 (io), 5 VCC (power), 6 GND (power), 7 XTAL1/PB4 (io), 8 XTAL2/PB5 (io), 9 PB6 (io), 10 ~{{RESET}/PB7} (io), 11 PA7 (io), 12 PA6 (io), 13 PA5 (io), 14 PA4 (io), 15 AVCC (power), 16 GND hidden, 17 AREF/PA3 (io), 18 PA2 (io), 19 PA1 (io), 20 PA0 (io)

## ATtiny26-16S
designator *  value ATtiny26-16S
ki_keywords: AVR 8bit Microcontroller tinyAVR; ki_description: 16MHz, 2kB Flash, 128B SRAM, 128B EEPROM, SOIC-20; ki_fp_filters: SOIC*7.5x12.8mm*P1.27mm*; Footprint: Package_SO:SOIC-20W_7.5x12.8mm_P1.27mm; Supplier: http://ww1.microchip.com/downloads/en/DeviceDoc/doc1477.pdf
footprint SOIC-20W_7.5x12.8mm_P1.27mm
pins: 1 PB0 (io), 2 PB1 (io), 3 PB2 (io), 4 PB3 (io), 5 VCC (power), 6 GND (power), 7 XTAL1/PB4 (io), 8 XTAL2/PB5 (io), 9 PB6 (io), 10 ~{{RESET}/PB7} (io), 11 PA7 (io), 12 PA6 (io), 13 PA5 (io), 14 PA4 (io), 15 AVCC (power), 16 GND hidden, 17 AREF/PA3 (io), 18 PA2 (io), 19 PA1 (io), 20 PA0 (io)

## ATtiny26L-8M
designator *  value ATtiny26L-8M
ki_keywords: AVR 8bit Microcontroller tinyAVR; ki_description: 8MHz, 2kB Flash, 128B SRAM, 128B EEPROM, QFN-32; ki_fp_filters: QFN*1EP*5x5mm*P0.5mm*; Footprint: Package_DFN_QFN:QFN-32-1EP_5x5mm_P0.5mm_EP3.1x3.1mm; Supplier: http://ww1.microchip.com/downloads/en/DeviceDoc/doc1477.pdf
footprint QFN-32-1EP_5x5mm_P0.5mm_EP3.1x3.1mm
pins: 1 NC (in) hidden, 2 PB3 (io), 3 NC (in) hidden, 4 VCC (power), 5 GND (power), 6 NC (in) hidden, 7 XTAL1/PB4 (io), 8 XTAL2/PB5 (io), 9 NC (in) hidden, 10 PB6 (io), 11 ~{{RESET}/PB7} (io), 12 NC (in) hidden, 13 PA7 (io), 14 PA6 (io), 15 PA5 (io), 16 NC (in) hidden, 17 PA4 (io), 18 AVCC (power), 19 NC (in) hidden, 20 NC (in) hidden, 21 GND hidden, 22 AREF/PA3 (io), 23 PA2 (io), 24 NC (in) hidden, 25 PA1 (io), 26 PA0 (io), 27 NC (in) hidden, 28 NC (in) hidden, 29 NC (in) hidden, 30 PB0 (io), 31 PB1 (io), 32 PB2 (io), 33 GND hidden

## ATtiny26L-8P
designator *  value ATtiny26L-8P
ki_keywords: AVR 8bit Microcontroller tinyAVR; ki_description: 8MHz, 2kB Flash, 128B SRAM, 128B EEPROM, DIP-20; ki_fp_filters: DIP*W7.62mm*; Footprint: Package_DIP:DIP-20_W7.62mm; Supplier: http://ww1.microchip.com/downloads/en/DeviceDoc/doc1477.pdf
footprint DIP-20_W7.62mm
pins: 1 PB0 (io), 2 PB1 (io), 3 PB2 (io), 4 PB3 (io), 5 VCC (power), 6 GND (power), 7 XTAL1/PB4 (io), 8 XTAL2/PB5 (io), 9 PB6 (io), 10 ~{{RESET}/PB7} (io), 11 PA7 (io), 12 PA6 (io), 13 PA5 (io), 14 PA4 (io), 15 AVCC (power), 16 GND hidden, 17 AREF/PA3 (io), 18 PA2 (io), 19 PA1 (io), 20 PA0 (io)

## ATtiny26L-8S
designator *  value ATtiny26L-8S
ki_keywords: AVR 8bit Microcontroller tinyAVR; ki_description: 8MHz, 2kB Flash, 128B SRAM, 128B EEPROM, SOIC-20; ki_fp_filters: SOIC*7.5x12.8mm*P1.27mm*; Footprint: Package_SO:SOIC-20W_7.5x12.8mm_P1.27mm; Supplier: http://ww1.microchip.com/downloads/en/DeviceDoc/doc1477.pdf
footprint SOIC-20W_7.5x12.8mm_P1.27mm
pins: 1 PB0 (io), 2 PB1 (io), 3 PB2 (io), 4 PB3 (io), 5 VCC (power), 6 GND (power), 7 XTAL1/PB4 (io), 8 XTAL2/PB5 (io), 9 PB6 (io), 10 ~{{RESET}/PB7} (io), 11 PA7 (io), 12 PA6 (io), 13 PA5 (io), 14 PA4 (io), 15 AVCC (power), 16 GND hidden, 17 AREF/PA3 (io), 18 PA2 (io), 19 PA1 (io), 20 PA0 (io)

## ATtiny28L-4A
designator *  value ATtiny28L-4A
ki_keywords: AVR 8bit Microcontroller tinyAVR IR; ki_description: 4MHz, 2kB Flash, No SRAM, No EEPROM, TQFP-32; ki_fp_filters: TQFP*7x7mm*P0.8mm*; Footprint: Package_QFP:TQFP-32_7x7mm_P0.8mm; Supplier: http://ww1.microchip.com/downloads/en/DeviceDoc/doc1062.pdf
footprint TQFP-32_7x7mm_P0.8mm
pins: 1 PD3 (io), 2 PD4 (io), 3 NC (in) hidden, 4 VCC (power), 5 GND (power), 6 NC (in) hidden, 7 XTAL1 (in), 8 XTAL2 (out), 9 PD5 (io), 10 PD6 (io), 11 PD7 (io), 12 PB0 (io), 13 PB1 (io), 14 PB2 (io), 15 PB3 (io), 16 PB4 (io), 17 PB5 (io), 18 VCC hidden, 19 NC (in) hidden, 20 NC (in) hidden, 21 GND hidden, 22 NC (in) hidden, 23 PB6 (io), 24 PB7 (io), 25 PA2 (io), 26 PA3 (io), 27 PA1 (io), 28 PA0 (io), 29 ~{{RESET}} (in), 30 PD0 (io), 31 PD1 (io), 32 PD2 (io)

## ATtiny28L-4M
designator *  value ATtiny28L-4M
ki_keywords: AVR 8bit Microcontroller tinyAVR IR; ki_description: 4MHz, 2kB Flash, No SRAM, No EEPROM, QFN-32; ki_fp_filters: QFN*1EP*5x5mm*P0.5mm*; Footprint: Package_DFN_QFN:QFN-32-1EP_5x5mm_P0.5mm_EP3.1x3.1mm; Supplier: http://ww1.microchip.com/downloads/en/DeviceDoc/doc1062.pdf
footprint QFN-32-1EP_5x5mm_P0.5mm_EP3.1x3.1mm
pins: 1 PD3 (io), 2 PD4 (io), 3 NC (in) hidden, 4 VCC (power), 5 GND (power), 6 NC (in) hidden, 7 XTAL1 (in), 8 XTAL2 (out), 9 PD5 (io), 10 PD6 (io), 11 PD7 (io), 12 PB0 (io), 13 PB1 (io), 14 PB2 (io), 15 PB3 (io), 16 PB4 (io), 17 PB5 (io), 18 VCC hidden, 19 NC (in) hidden, 20 NC (in) hidden, 21 GND hidden, 22 NC (in) hidden, 23 PB6 (io), 24 PB7 (io), 25 PA2 (io), 26 PA3 (io), 27 PA1 (io), 28 PA0 (io), 29 ~{{RESET}} (in), 30 PD0 (io), 31 PD1 (io), 32 PD2 (io), 33 GND hidden

## ATtiny28L-4P
designator *  value ATtiny28L-4P
ki_keywords: AVR 8bit Microcontroller tinyAVR IR; ki_description: 4MHz, 2kB Flash, No SRAM, No EEPROM, DIP-28; ki_fp_filters: DIP*W7.62mm*; Footprint: Package_DIP:DIP-28_W7.62mm; Supplier: http://ww1.microchip.com/downloads/en/DeviceDoc/doc1062.pdf
footprint DIP-28_W7.62mm
pins: 1 ~{{RESET}} (in), 2 PD0 (io), 3 PD1 (io), 4 PD2 (io), 5 PD3 (io), 6 PD4 (io), 7 VCC (power), 8 GND (power), 9 XTAL1 (in), 10 XTAL2 (out), 11 PD5 (io), 12 PD6 (io), 13 PD7 (io), 14 PB0 (io), 15 PB1 (io), 16 PB2 (io), 17 PB3 (io), 18 PB4 (io), 19 PB5 (io), 20 VCC hidden, 21 NC (in) hidden, 22 GND hidden, 23 PB6 (io), 24 PB7 (io), 25 PA2 (io), 26 PA3 (io), 27 PA1 (io), 28 PA0 (io)

## ATtiny28V-1A
designator *  value ATtiny28V-1A
ki_keywords: AVR 8bit Microcontroller tinyAVR IR; ki_description: 1.2MHz, 2kB Flash, No SRAM, No EEPROM, TQFP-32; ki_fp_filters: TQFP*7x7mm*P0.8mm*; Footprint: Package_QFP:TQFP-32_7x7mm_P0.8mm; Supplier: http://ww1.microchip.com/downloads/en/DeviceDoc/doc1062.pdf
footprint TQFP-32_7x7mm_P0.8mm
pins: 1 PD3 (io), 2 PD4 (io), 3 NC (in) hidden, 4 VCC (power), 5 GND (power), 6 NC (in) hidden, 7 XTAL1 (in), 8 XTAL2 (out), 9 PD5 (io), 10 PD6 (io), 11 PD7 (io), 12 PB0 (io), 13 PB1 (io), 14 PB2 (io), 15 PB3 (io), 16 PB4 (io), 17 PB5 (io), 18 VCC hidden, 19 NC (in) hidden, 20 NC (in) hidden, 21 GND hidden, 22 NC (in) hidden, 23 PB6 (io), 24 PB7 (io), 25 PA2 (io), 26 PA3 (io), 27 PA1 (io), 28 PA0 (io), 29 ~{{RESET}} (in), 30 PD0 (io), 31 PD1 (io), 32 PD2 (io)

## ATtiny28V-1M
designator *  value ATtiny28V-1M
ki_keywords: AVR 8bit Microcontroller tinyAVR IR; ki_description: 1.2MHz, 2kB Flash, No SRAM, No EEPROM, QFN-32; ki_fp_filters: QFN*1EP*5x5mm*P0.5mm*; Footprint: Package_DFN_QFN:QFN-32-1EP_5x5mm_P0.5mm_EP3.1x3.1mm; Supplier: http://ww1.microchip.com/downloads/en/DeviceDoc/doc1062.pdf
footprint QFN-32-1EP_5x5mm_P0.5mm_EP3.1x3.1mm
pins: 1 PD3 (io), 2 PD4 (io), 3 NC (in) hidden, 4 VCC (power), 5 GND (power), 6 NC (in) hidden, 7 XTAL1 (in), 8 XTAL2 (out), 9 PD5 (io), 10 PD6 (io), 11 PD7 (io), 12 PB0 (io), 13 PB1 (io), 14 PB2 (io), 15 PB3 (io), 16 PB4 (io), 17 PB5 (io), 18 VCC hidden, 19 NC (in) hidden, 20 NC (in) hidden, 21 GND hidden, 22 NC (in) hidden, 23 PB6 (io), 24 PB7 (io), 25 PA2 (io), 26 PA3 (io), 27 PA1 (io), 28 PA0 (io), 29 ~{{RESET}} (in), 30 PD0 (io), 31 PD1 (io), 32 PD2 (io), 33 GND hidden

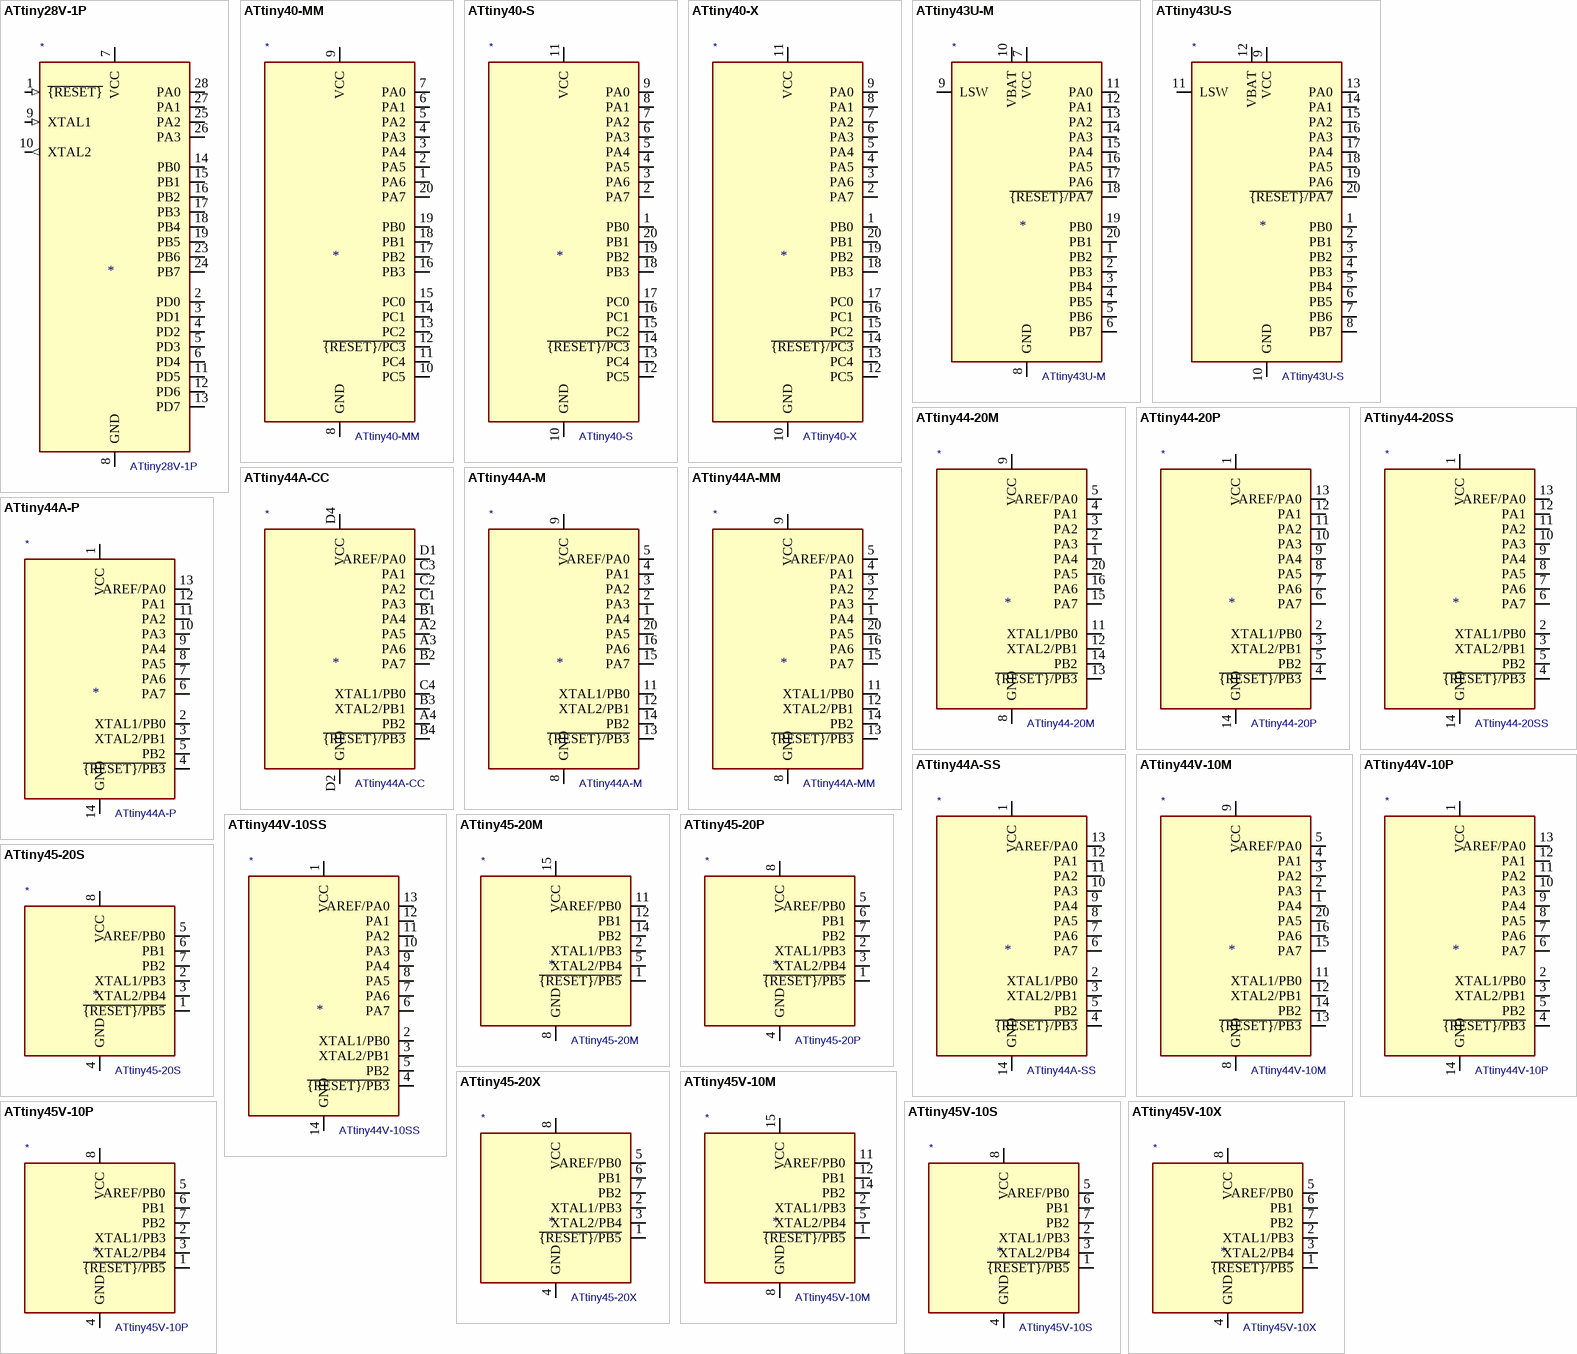
[diagram p2: symbols ATtiny28V-1P to ATtiny45V-10X]

## ATtiny28V-1P
designator *  value ATtiny28V-1P
ki_keywords: AVR 8bit Microcontroller tinyAVR IR; ki_description: 1.2MHz, 2kB Flash, No SRAM, No EEPROM, DIP-28; ki_fp_filters: DIP*W7.62mm*; Footprint: Package_DIP:DIP-28_W7.62mm; Supplier: http://ww1.microchip.com/downloads/en/DeviceDoc/doc1062.pdf
footprint DIP-28_W7.62mm
pins: 1 ~{{RESET}} (in), 2 PD0 (io), 3 PD1 (io), 4 PD2 (io), 5 PD3 (io), 6 PD4 (io), 7 VCC (power), 8 GND (power), 9 XTAL1 (in), 10 XTAL2 (out), 11 PD5 (io), 12 PD6 (io), 13 PD7 (io), 14 PB0 (io), 15 PB1 (io), 16 PB2 (io), 17 PB3 (io), 18 PB4 (io), 19 PB5 (io), 20 VCC hidden, 21 NC (in) hidden, 22 GND hidden, 23 PB6 (io), 24 PB7 (io), 25 PA2 (io), 26 PA3 (io), 27 PA1 (io), 28 PA0 (io)

## ATtiny40-MM
designator *  value ATtiny40-MM
ki_keywords: AVR 8bit Microcontroller tinyAVR; ki_description: 12MHz, 4kB Flash, 256B SRAM, No EEPROM, QFN-20; ki_fp_filters: QFN*1EP*3x3mm*P0.45mm*; Footprint: Package_DFN_QFN:QFN-20-1EP_3x3mm_P0.45mm_EP1.6x1.6mm; Supplier: http://ww1.microchip.com/downloads/en/DeviceDoc/atmel-8263-8-bit-avr-microcontroller-tinyavr-attiny40_datasheet.pdf
footprint QFN-20-1EP_3x3mm_P0.45mm_EP1.6x1.6mm
pins: 1 PA6 (io), 2 PA5 (io), 3 PA4 (io), 4 PA3 (io), 5 PA2 (io), 6 PA1 (io), 7 PA0 (io), 8 GND (power), 9 VCC (power), 10 PC5 (io), 11 PC4 (io), 12 ~{{RESET}/PC3} (io), 13 PC2 (io), 14 PC1 (io), 15 PC0 (io), 16 PB3 (io), 17 PB2 (io), 18 PB1 (io), 19 PB0 (io), 20 PA7 (io), 21 GND hidden

## ATtiny40-S
designator *  value ATtiny40-S
ki_keywords: AVR 8bit Microcontroller tinyAVR; ki_description: 12MHz, 4kB Flash, 256B SRAM, No EEPROM, SOIC-20; ki_fp_filters: SOIC*7.5x12.8mm*P1.27mm*; Footprint: Package_SO:SOIC-20W_7.5x12.8mm_P1.27mm; Supplier: http://ww1.microchip.com/downloads/en/DeviceDoc/atmel-8263-8-bit-avr-microcontroller-tinyavr-attiny40_datasheet.pdf
footprint SOIC-20W_7.5x12.8mm_P1.27mm
pins: 1 PB0 (io), 2 PA7 (io), 3 PA6 (io), 4 PA5 (io), 5 PA4 (io), 6 PA3 (io), 7 PA2 (io), 8 PA1 (io), 9 PA0 (io), 10 GND (power), 11 VCC (power), 12 PC5 (io), 13 PC4 (io), 14 ~{{RESET}/PC3} (io), 15 PC2 (io), 16 PC1 (io), 17 PC0 (io), 18 PB3 (io), 19 PB2 (io), 20 PB1 (io)

## ATtiny40-X
designator *  value ATtiny40-X
ki_keywords: AVR 8bit Microcontroller tinyAVR; ki_description: 12MHz, 4kB Flash, 256B SRAM, No EEPROM, TSSOP-20; ki_fp_filters: TSSOP*4.4x6.5mm*P0.65mm*; Footprint: Package_SO:TSSOP-20_4.4x6.5mm_P0.65mm; Supplier: http://ww1.microchip.com/downloads/en/DeviceDoc/atmel-8263-8-bit-avr-microcontroller-tinyavr-attiny40_datasheet.pdf
footprint TSSOP-20_4.4x6.5mm_P0.65mm
pins: 1 PB0 (io), 2 PA7 (io), 3 PA6 (io), 4 PA5 (io), 5 PA4 (io), 6 PA3 (io), 7 PA2 (io), 8 PA1 (io), 9 PA0 (io), 10 GND (power), 11 VCC (power), 12 PC5 (io), 13 PC4 (io), 14 ~{{RESET}/PC3} (io), 15 PC2 (io), 16 PC1 (io), 17 PC0 (io), 18 PB3 (io), 19 PB2 (io), 20 PB1 (io)

## ATtiny43U-M
designator *  value ATtiny43U-M
ki_keywords: AVR 8bit Microcontroller tinyAVR Battery Boost; ki_description: 8MHz, 4kB Flash, 256B SRAM, 64B EEPROM, QFN-20; ki_fp_filters: QFN*1EP*4x4mm*P0.5mm*; Footprint: Package_DFN_QFN:QFN-20-1EP_4x4mm_P0.5mm_EP2.6x2.6mm; Supplier: http://ww1.microchip.com/downloads/en/DeviceDoc/doc8048.pdf
footprint QFN-20-1EP_4x4mm_P0.5mm_EP2.6x2.6mm
pins: 1 PB2 (io), 2 PB3 (io), 3 PB4 (io), 4 PB5 (io), 5 PB6 (io), 6 PB7 (io), 7 VCC (power), 8 GND (power), 9 LSW, 10 VBAT (power), 11 PA0 (io), 12 PA1 (io), 13 PA2 (io), 14 PA3 (io), 15 PA4 (io), 16 PA5 (io), 17 PA6 (io), 18 ~{{RESET}/PA7} (io), 19 PB0 (io), 20 PB1 (io), 21 GND hidden

## ATtiny43U-S
designator *  value ATtiny43U-S
ki_keywords: AVR 8bit Microcontroller tinyAVR Battery Boost; ki_description: 8MHz, 4kB Flash, 256B SRAM, 64B EEPROM, SOIC-20; ki_fp_filters: SOIC*7.5x12.8mm*P1.27mm*; Footprint: Package_SO:SOIC-20W_7.5x12.8mm_P1.27mm; Supplier: http://ww1.microchip.com/downloads/en/DeviceDoc/doc8048.pdf
footprint SOIC-20W_7.5x12.8mm_P1.27mm
pins: 1 PB0 (io), 2 PB1 (io), 3 PB2 (io), 4 PB3 (io), 5 PB4 (io), 6 PB5 (io), 7 PB6 (io), 8 PB7 (io), 9 VCC (power), 10 GND (power), 11 LSW, 12 VBAT (power), 13 PA0 (io), 14 PA1 (io), 15 PA2 (io), 16 PA3 (io), 17 PA4 (io), 18 PA5 (io), 19 PA6 (io), 20 ~{{RESET}/PA7} (io)

## ATtiny44-20M
designator *  value ATtiny44-20M
ki_keywords: AVR 8bit Microcontroller tinyAVR; ki_description: 20MHz, 4kB Flash, 256B SRAM, 256B EEPROM, debugWIRE, QFN-20; ki_fp_filters: QFN*1EP*4x4mm*P0.5mm*; Footprint: Package_DFN_QFN:QFN-20-1EP_4x4mm_P0.5mm_EP2.6x2.6mm; Supplier: http://ww1.microchip.com/downloads/en/DeviceDoc/doc8006.pdf
footprint QFN-20-1EP_4x4mm_P0.5mm_EP2.6x2.6mm
pins: 1 PA4 (io), 2 PA3 (io), 3 PA2 (io), 4 PA1 (io), 5 AREF/PA0 (io), 6 NC (in) hidden, 7 NC (in) hidden, 8 GND (power), 9 VCC (power), 10 NC (in) hidden, 11 XTAL1/PB0 (io), 12 XTAL2/PB1 (io), 13 ~{{RESET}/PB3} (io), 14 PB2 (io), 15 PA7 (io), 16 PA6 (io), 17 NC (in) hidden, 18 NC (in) hidden, 19 NC (in) hidden, 20 PA5 (io), 21 GND hidden

## ATtiny44-20P
designator *  value ATtiny44-20P
ki_keywords: AVR 8bit Microcontroller tinyAVR; ki_description: 20MHz, 4kB Flash, 256B SRAM, 256B EEPROM, debugWIRE, DIP-14; ki_fp_filters: DIP*W7.62mm*; Footprint: Package_DIP:DIP-14_W7.62mm; Supplier: http://ww1.microchip.com/downloads/en/DeviceDoc/doc8006.pdf
footprint DIP-14_W7.62mm
pins: 1 VCC (power), 2 XTAL1/PB0 (io), 3 XTAL2/PB1 (io), 4 ~{{RESET}/PB3} (io), 5 PB2 (io), 6 PA7 (io), 7 PA6 (io), 8 PA5 (io), 9 PA4 (io), 10 PA3 (io), 11 PA2 (io), 12 PA1 (io), 13 AREF/PA0 (io), 14 GND (power)

## ATtiny44-20SS
designator *  value ATtiny44-20SS
ki_keywords: AVR 8bit Microcontroller tinyAVR; ki_description: 20MHz, 4kB Flash, 256B SRAM, 256B EEPROM, debugWIRE, SOIC-14; ki_fp_filters: SOIC*3.9x8.7mm*P1.27mm*; Footprint: Package_SO:SOIC-14_3.9x8.7mm_P1.27mm; Supplier: http://ww1.microchip.com/downloads/en/DeviceDoc/doc8006.pdf
footprint SOIC-14_3.9x8.7mm_P1.27mm
pins: 1 VCC (power), 2 XTAL1/PB0 (io), 3 XTAL2/PB1 (io), 4 ~{{RESET}/PB3} (io), 5 PB2 (io), 6 PA7 (io), 7 PA6 (io), 8 PA5 (io), 9 PA4 (io), 10 PA3 (io), 11 PA2 (io), 12 PA1 (io), 13 AREF/PA0 (io), 14 GND (power)

## ATtiny44A-CC
designator *  value ATtiny44A-CC
ki_keywords: AVR 8bit Microcontroller tinyAVR; ki_description: 20MHz, 4kB Flash, 256B SRAM, 256B EEPROM, debugWIRE, UFBGA-15; ki_fp_filters: UFBGA*3.0x3.0mm*Layout4x4*P0.65mm*; Footprint: Package_BGA:UFBGA-15_3.0x3.0mm_Layout4x4_P0.65mm; Supplier: http://ww1.microchip.com/downloads/en/DeviceDoc/doc8183.pdf
footprint UFBGA-15_3.0x3.0mm_Layout4x4_P0.65mm
pins: A2 PA5 (io), A3 PA6 (io), A4 PB2 (io), B1 PA4 (io), B2 PA7 (io), B3 XTAL2/PB1 (io), B4 ~{{RESET}/PB3} (io), C1 PA3 (io), C2 PA2 (io), C3 PA1 (io), C4 XTAL1/PB0 (io), D1 AREF/PA0 (io), D2 GND (power), D3 GND hidden, D4 VCC (power)

## ATtiny44A-M
designator *  value ATtiny44A-M
ki_keywords: AVR 8bit Microcontroller tinyAVR; ki_description: 20MHz, 4kB Flash, 256B SRAM, 256B EEPROM, debugWIRE, QFN-20; ki_fp_filters: QFN*1EP*4x4mm*P0.5mm*; Footprint: Package_DFN_QFN:QFN-20-1EP_4x4mm_P0.5mm_EP2.6x2.6mm; Supplier: http://ww1.microchip.com/downloads/en/DeviceDoc/doc8183.pdf
footprint QFN-20-1EP_4x4mm_P0.5mm_EP2.6x2.6mm
pins: 1 PA4 (io), 2 PA3 (io), 3 PA2 (io), 4 PA1 (io), 5 AREF/PA0 (io), 6 NC (in) hidden, 7 NC (in) hidden, 8 GND (power), 9 VCC (power), 10 NC (in) hidden, 11 XTAL1/PB0 (io), 12 XTAL2/PB1 (io), 13 ~{{RESET}/PB3} (io), 14 PB2 (io), 15 PA7 (io), 16 PA6 (io), 17 NC (in) hidden, 18 NC (in) hidden, 19 NC (in) hidden, 20 PA5 (io), 21 GND hidden

## ATtiny44A-MM
designator *  value ATtiny44A-MM
ki_keywords: AVR 8bit Microcontroller tinyAVR; ki_description: 20MHz, 4kB Flash, 256B SRAM, 256B EEPROM, debugWIRE, QFN-20; ki_fp_filters: QFN*1EP*3x3mm*P0.45mm*; Footprint: Package_DFN_QFN:QFN-20-1EP_3x3mm_P0.45mm_EP1.6x1.6mm; Supplier: http://ww1.microchip.com/downloads/en/DeviceDoc/doc8183.pdf
footprint QFN-20-1EP_3x3mm_P0.45mm_EP1.6x1.6mm
pins: 1 PA4 (io), 2 PA3 (io), 3 PA2 (io), 4 PA1 (io), 5 AREF/PA0 (io), 6 NC (in) hidden, 7 NC (in) hidden, 8 GND (power), 9 VCC (power), 10 NC (in) hidden, 11 XTAL1/PB0 (io), 12 XTAL2/PB1 (io), 13 ~{{RESET}/PB3} (io), 14 PB2 (io), 15 PA7 (io), 16 PA6 (io), 17 NC (in) hidden, 18 NC (in) hidden, 19 NC (in) hidden, 20 PA5 (io), 21 GND hidden

## ATtiny44A-P
designator *  value ATtiny44A-P
ki_keywords: AVR 8bit Microcontroller tinyAVR; ki_description: 20MHz, 4kB Flash, 256B SRAM, 256B EEPROM, debugWIRE, DIP-14; ki_fp_filters: DIP*W7.62mm*; Footprint: Package_DIP:DIP-14_W7.62mm; Supplier: http://ww1.microchip.com/downloads/en/DeviceDoc/doc8183.pdf
footprint DIP-14_W7.62mm
pins: 1 VCC (power), 2 XTAL1/PB0 (io), 3 XTAL2/PB1 (io), 4 ~{{RESET}/PB3} (io), 5 PB2 (io), 6 PA7 (io), 7 PA6 (io), 8 PA5 (io), 9 PA4 (io), 10 PA3 (io), 11 PA2 (io), 12 PA1 (io), 13 AREF/PA0 (io), 14 GND (power)

## ATtiny44A-SS
designator *  value ATtiny44A-SS
ki_keywords: AVR 8bit Microcontroller tinyAVR; ki_description: 20MHz, 4kB Flash, 256B SRAM, 256B EEPROM, debugWIRE, SOIC-14; ki_fp_filters: SOIC*3.9x8.7mm*P1.27mm*; Footprint: Package_SO:SOIC-14_3.9x8.7mm_P1.27mm; Supplier: http://ww1.microchip.com/downloads/en/DeviceDoc/doc8183.pdf
footprint SOIC-14_3.9x8.7mm_P1.27mm
pins: 1 VCC (power), 2 XTAL1/PB0 (io), 3 XTAL2/PB1 (io), 4 ~{{RESET}/PB3} (io), 5 PB2 (io), 6 PA7 (io), 7 PA6 (io), 8 PA5 (io), 9 PA4 (io), 10 PA3 (io), 11 PA2 (io), 12 PA1 (io), 13 AREF/PA0 (io), 14 GND (power)

## ATtiny44V-10M
designator *  value ATtiny44V-10M
ki_keywords: AVR 8bit Microcontroller tinyAVR; ki_description: 10MHz, 4kB Flash, 256B SRAM, 256B EEPROM, debugWIRE, QFN-20; ki_fp_filters: QFN*1EP*4x4mm*P0.5mm*; Footprint: Package_DFN_QFN:QFN-20-1EP_4x4mm_P0.5mm_EP2.6x2.6mm; Supplier: http://ww1.microchip.com/downloads/en/DeviceDoc/doc8006.pdf
footprint QFN-20-1EP_4x4mm_P0.5mm_EP2.6x2.6mm
pins: 1 PA4 (io), 2 PA3 (io), 3 PA2 (io), 4 PA1 (io), 5 AREF/PA0 (io), 6 NC (in) hidden, 7 NC (in) hidden, 8 GND (power), 9 VCC (power), 10 NC (in) hidden, 11 XTAL1/PB0 (io), 12 XTAL2/PB1 (io), 13 ~{{RESET}/PB3} (io), 14 PB2 (io), 15 PA7 (io), 16 PA6 (io), 17 NC (in) hidden, 18 NC (in) hidden, 19 NC (in) hidden, 20 PA5 (io), 21 GND hidden

## ATtiny44V-10P
designator *  value ATtiny44V-10P
ki_keywords: AVR 8bit Microcontroller tinyAVR; ki_description: 10MHz, 4kB Flash, 256B SRAM, 256B EEPROM, debugWIRE, DIP-14; ki_fp_filters: DIP*W7.62mm*; Footprint: Package_DIP:DIP-14_W7.62mm; Supplier: http://ww1.microchip.com/downloads/en/DeviceDoc/doc8006.pdf
footprint DIP-14_W7.62mm
pins: 1 VCC (power), 2 XTAL1/PB0 (io), 3 XTAL2/PB1 (io), 4 ~{{RESET}/PB3} (io), 5 PB2 (io), 6 PA7 (io), 7 PA6 (io), 8 PA5 (io), 9 PA4 (io), 10 PA3 (io), 11 PA2 (io), 12 PA1 (io), 13 AREF/PA0 (io), 14 GND (power)

## ATtiny44V-10SS
designator *  value ATtiny44V-10SS
ki_keywords: AVR 8bit Microcontroller tinyAVR; ki_description: 10MHz, 4kB Flash, 256B SRAM, 256B EEPROM, debugWIRE, SOIC-14; ki_fp_filters: SOIC*3.9x8.7mm*P1.27mm*; Footprint: Package_SO:SOIC-14_3.9x8.7mm_P1.27mm; Supplier: http://ww1.microchip.com/downloads/en/DeviceDoc/doc8006.pdf
footprint SOIC-14_3.9x8.7mm_P1.27mm
pins: 1 VCC (power), 2 XTAL1/PB0 (io), 3 XTAL2/PB1 (io), 4 ~{{RESET}/PB3} (io), 5 PB2 (io), 6 PA7 (io), 7 PA6 (io), 8 PA5 (io), 9 PA4 (io), 10 PA3 (io), 11 PA2 (io), 12 PA1 (io), 13 AREF/PA0 (io), 14 GND (power)

## ATtiny45-20M
designator *  value ATtiny45-20M
ki_keywords: AVR 8bit Microcontroller tinyAVR; ki_description: 20MHz, 4kB Flash, 256B SRAM, 256B EEPROM, debugWIRE, QFN-20; ki_fp_filters: QFN*1EP*4x4mm*P0.5mm*; Footprint: Package_DFN_QFN:QFN-20-1EP_4x4mm_P0.5mm_EP2.6x2.6mm; Supplier: http://ww1.microchip.com/downloads/en/DeviceDoc/atmel-2586-avr-8-bit-microcontroller-attiny25-attiny45-attiny85_datasheet.pdf
footprint QFN-20-1EP_4x4mm_P0.5mm_EP2.6x2.6mm
pins: 1 ~{{RESET}/PB5} (io), 2 XTAL1/PB3 (io), 3 NC (in) hidden, 4 NC (in) hidden, 5 XTAL2/PB4 (io), 6 NC (in) hidden, 7 NC (in) hidden, 8 GND (power), 9 NC (in) hidden, 10 NC (in) hidden, 11 AREF/PB0 (io), 12 PB1 (io), 13 NC (in) hidden, 14 PB2 (io), 15 VCC (power), 16 NC (in) hidden, 17 NC (in) hidden, 18 NC (in) hidden, 19 NC (in) hidden, 20 NC (in) hidden, 21 GND hidden

## ATtiny45-20P
designator *  value ATtiny45-20P
ki_keywords: AVR 8bit Microcontroller tinyAVR; ki_description: 20MHz, 4kB Flash, 256B SRAM, 256B EEPROM, debugWIRE, DIP-8; ki_fp_filters: DIP*W7.62mm*; Footprint: Package_DIP:DIP-8_W7.62mm; Supplier: http://ww1.microchip.com/downloads/en/DeviceDoc/atmel-2586-avr-8-bit-microcontroller-attiny25-attiny45-attiny85_datasheet.pdf
footprint DIP-8_W7.62mm
pins: 1 ~{{RESET}/PB5} (io), 2 XTAL1/PB3 (io), 3 XTAL2/PB4 (io), 4 GND (power), 5 AREF/PB0 (io), 6 PB1 (io), 7 PB2 (io), 8 VCC (power)

## ATtiny45-20S
designator *  value ATtiny45-20S
ki_keywords: AVR 8bit Microcontroller tinyAVR; ki_description: 20MHz, 4kB Flash, 256B SRAM, 256B EEPROM, debugWIRE, SOIC-8W; ki_fp_filters: SOIC*5.3x5.3mm*P1.27mm*; Footprint: Package_SO:SOIC-8W_5.3x5.3mm_P1.27mm; Supplier: http://ww1.microchip.com/downloads/en/DeviceDoc/atmel-2586-avr-8-bit-microcontroller-attiny25-attiny45-attiny85_datasheet.pdf
footprint SOIC-8W_5.3x5.3mm_P1.27mm
pins: 1 ~{{RESET}/PB5} (io), 2 XTAL1/PB3 (io), 3 XTAL2/PB4 (io), 4 GND (power), 5 AREF/PB0 (io), 6 PB1 (io), 7 PB2 (io), 8 VCC (power)